# Altium footprint library Composants_Projet_PCB_TP9.PcbLib: 19 footprints (part 2 of 2)
Each footprint in its own frame and in the unit in brackets; x right, y up, seen from the top. Pads: shape width x height; smd on the part's side, far side on the other; paste and mask are expansions set on the pad; w line width, h text height; cw(c..) or ccw(c..) is an arc to the next point about the centre after c.
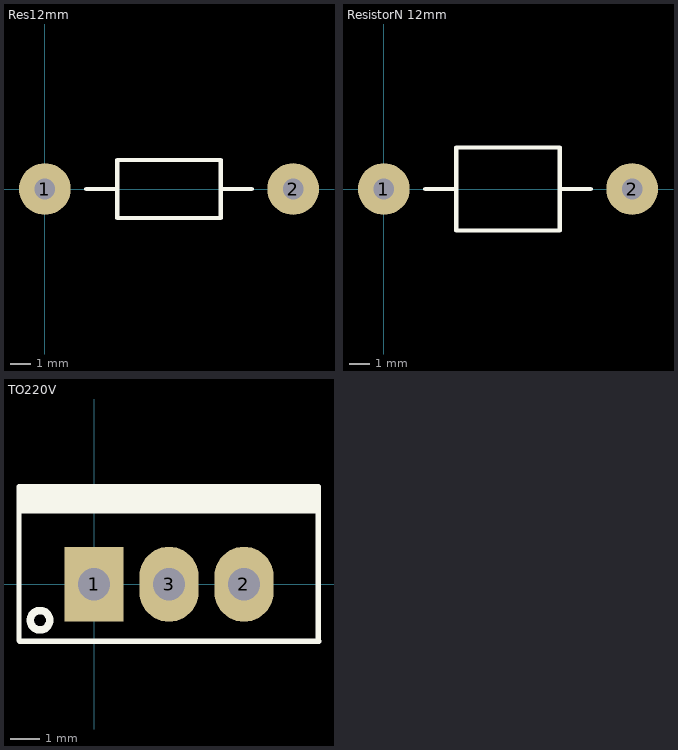
[diagram p1: the footprints below, top view; thin cyan lines are the x and y axes]

## Res12mm [mm]
pads (2):
  round 2.5 hole 1: 1(0,0) 2(12,0)
Top Overlay:
  lines w0.2: 2,0 3.5,0 ; 8.5,0 10,0 ; 3.5,-1.397 8.5,-1.397 8.5,1.397 3.5,1.397 3.5,-1.397

## ResistorN 12mm [mm]
pads (2):
  round 2.5 hole 1: 1(0,0) 2(12,0)
Top Overlay:
  lines w0.2: 2,0 3.5,0 ; 8.5,0 10,0 ; 3.5,-2 8.5,-2 8.5,2 3.5,2 3.5,-2
3D body "Res50-Axial 0_5W-220R.STEP": height 5.38, standoff -4, extent -0.756,-1.875 12.694,1.875

## TO220V [mm]
pads (3):
  rect 2x2.54 hole 1.1: 1(0,0)
  oval 2x2.54 hole 1.1: 2(5.08,0) 3(2.54,0)
Top Overlay:
  circle w0.254: c-1.83,-1.219 r0.329
  rectangle: -2.515,2.388 7.62,3.302
  lines w0.178: 7.569,2.718 7.595,2.362 ; -2.54,-1.905 -2.515,-1.93 -1.93,-1.93 7.62,-1.93 7.595,-1.905 7.595,3.302 -2.54,3.302 -2.54,-1.905
3D body "SW3dPS-TO220AB.STEP": height 19.17, standoff -10.16, extent -3.022,-1.626 8.191,3.064